# EAGLE library part MINIMUS (library minimus)
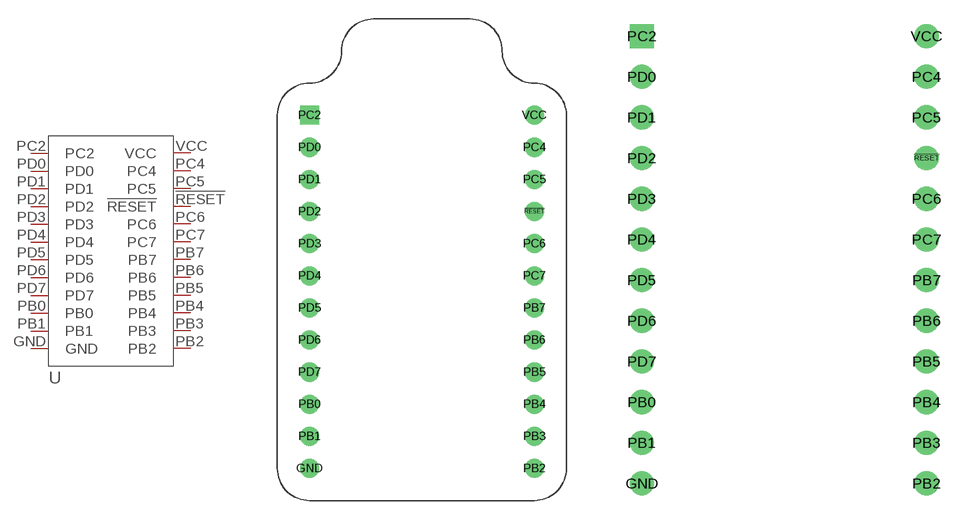
[diagram p0: symbol with the pads of MINIMUS; footprints MINIMUS, MINIMUSNOPINS]

Designator prefix -

## MINIMUS  [MINIMUS]
!RESET  !RESET  in
GND  GND  pwr
PB0  PB0
PB1  PB1
PB2  PB2
PB3  PB3
PB4  PB4
PB5  PB5
PB6  PB6
PB7  PB7
PC2  PC2
PC4  PC4
PC5  PC5
PC6  PC6
PC7  PC7
PD0  PD0
PD1  PD1
PD2  PD2
PD3  PD3
PD4  PD4
PD5  PD5
PD6  PD6
PD7  PD7
VCC  VCC  pwr

## MINIMUSNODIM  [MINIMUSNOPINS]
Pads as for MINIMUS

## Footprint MINIMUS (pad centres in mm)
drill 1: !RESET 17.78,-7.62; GND 0,-27.94; PB0 0,-22.86; PB1 0,-25.4; PB2 17.78,-27.94; PB3 17.78,-25.4; PB4 17.78,-22.86; PB5 17.78,-20.32; PB6 17.78,-17.78; PB7 17.78,-15.24; PC4 17.78,-2.54; PC5 17.78,-5.08; PC6 17.78,-10.16; PC7 17.78,-12.7; PD0 0,-2.54; PD1 0,-5.08; PD2 0,-7.62; PD3 0,-10.16; PD4 0,-12.7; PD5 0,-15.24; PD6 0,-17.78; PD7 0,-20.32; VCC 17.78,0
drill 1 square: PC2 0,0

## Footprint MINIMUSNOPINS (pad centres in mm)
drill 1: !RESET 17.78,-7.62; GND 0,-27.94; PB0 0,-22.86; PB1 0,-25.4; PB2 17.78,-27.94; PB3 17.78,-25.4; PB4 17.78,-22.86; PB5 17.78,-20.32; PB6 17.78,-17.78; PB7 17.78,-15.24; PC4 17.78,-2.54; PC5 17.78,-5.08; PC6 17.78,-10.16; PC7 17.78,-12.7; PD0 0,-2.54; PD1 0,-5.08; PD2 0,-7.62; PD3 0,-10.16; PD4 0,-12.7; PD5 0,-15.24; PD6 0,-17.78; PD7 0,-20.32; VCC 17.78,0
drill 1 square: PC2 0,0